# Altium footprint library PCIE-064-02-F-D-EMS2.PcbLib: 1 footprints
Each footprint in its own frame and in the unit in brackets; x right, y up, seen from the top. Pads: shape width x height; smd on the part's side, far side on the other; paste and mask are expansions set on the pad; w line width, h text height; cw(c..) or ccw(c..) is an arc to the next point about the centre after c.
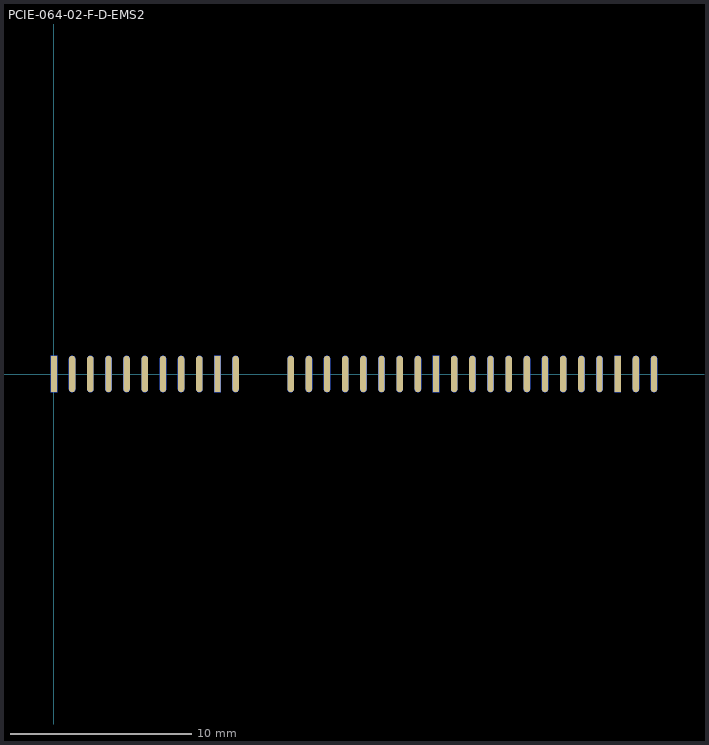
[diagram p0: the footprint, top view; thin cyan lines are the x and y axes]

## PCIE-064-02-F-D-EMS2 [mm]
pads (64):
  rect 0.35x2 smd: A1(0,0) A10(9,0) A20(21.032,0) A30(31.032,0)
  oval 0.35x2 smd: A2(1,0) A3(2,0) A4(3,0) A5(4,0) A6(5,0) A7(6,0) A8(7,0) A9(8,0) A11(10,0) A12(13.032,0) A13(14.032,0) A14(15.032,0) A15(16.032,0) A16(17.032,0) A17(18.032,0) A18(19.032,0) A19(20.032,0) A21(22.032,0) A22(23.032,0) A23(24.032,0) A24(25.032,0) A25(26.032,0) A26(27.032,0) A27(28.032,0) A28(29.032,0) A29(30.032,0) A31(32.032,0) A32(33.032,0)
  rect 0.35x2 smd far side: B1(0,0) B10(9,0) B20(21.032,0) B30(31.032,0)
  oval 0.35x2 smd far side: B2(1,0) B3(2,0) B4(3,0) B5(4,0) B6(5,0) B7(6,0) B8(7,0) B9(8,0) B11(10,0) B12(13.032,0) B13(14.032,0) B14(15.032,0) B15(16.032,0) B16(17.032,0) B17(18.032,0) B18(19.032,0) B19(20.032,0) B21(22.032,0) B22(23.032,0) B23(24.032,0) B24(25.032,0) B25(26.032,0) B26(27.032,0) B27(28.032,0) B28(29.032,0) B29(30.032,0) B31(32.032,0) B32(33.032,0)